# Altium schematic symbol library GRM32ER71E226KE15L.SchLib: 1 symbol
Pins are listed as number, name and electrical type; pins without a type are passive.

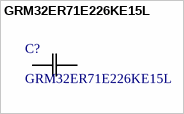
[diagram p0: symbol GRM32ER71E226KE15L]

## GRM32ER71E226KE15L
designator C?
CAP, CERM, 22 uF, 25 V, +/- 10%, X7R, 1210; Manufacturer_Name: Murata; Copyright: Copyright (C) 2025 Ultra Librarian. All rights reserved.; Manufacturer_Part_Number: GRM32ER71E226KE15L
footprint G-32_MUR
pins: 1, 2